# Altium integrated library ERJU08F4703V.IntLib: 1 symbol
Pins are listed as number, name and electrical type; pins without a type are passive.

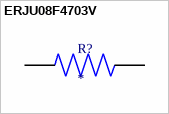
[diagram p0: symbol ERJU08F4703V]

## ERJU08F4703V
designator R?
MP: ERJU08F4703V; Package: None; Price: None; Availability: Unavailable; Value: *
footprint RES_ERJU08F4703V
pins: 1, 2